# EAGLE library part CC3000_PROGRAMMER (library SMORSE_Chao)
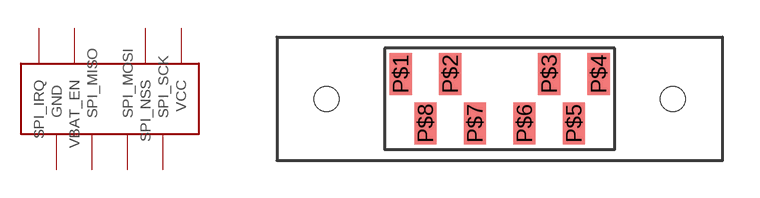
[diagram p13: symbol with the pads of AVX_9188_8-WAY_MATING_GUIDED; footprint AVX_9188_8-WAY_MATING_GUIDED]

Designator prefix -

## CC3000_PROGRAMMER  [AVX_9188_8-WAY_MATING_GUIDED]
P$1  SPI_IRQ
P$2  VBAT_EN  pas
P$3  SPI_NSS
P$4  VCC  pwr
P$5  SPI_SCK
P$6  SPI_MOSI
P$7  SPI_MISO
P$8  GND  pwr

## Footprint AVX_9188_8-WAY_MATING_GUIDED (pad centres in mm)
smd 0.9 x 1.7: P$1 -4,1; P$2 -2,1; P$3 2,1; P$4 4,1; P$5 3,-1; P$6 1,-1; P$7 -1,-1; P$8 -3,-1
hole 1 at -7,0
hole 1 at 7,0